# EAGLE library part STC3115AIQT (library STC3115AIQT)
Battery Management ANALOG Source: Datasheet <https://componentsearchengine.com/Datasheets/1/STC3115AIQT.pdf>
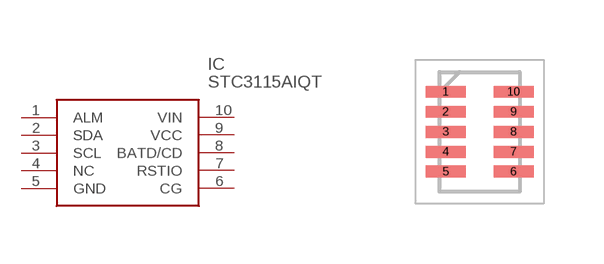
[diagram p0: symbol with the pads of SON50P200X300X60-10N; footprint SON50P200X300X60-10N]

Designator prefix IC

## STC3115AIQT (Description: Battery Management ANALOG; Height: 0.6mm; Manufacturer_Name: STMicroelectronics; Manufacturer_Part_Number: STC3115AIQT; Mouser_Part_Number: 511-STC3115AIQT; Mouser_Price-Stock: https://www.mouser.com/Search/Refine.aspx?Keyword=511-STC3115AIQT; RS_Part_Number: 1892089P; RS_Price-Stock: http://uk.rs-online.com/web/p/products/1892089P)  [SON50P200X300X60-10N]
1  ALM
2  SDA
3  SCL  in
4  NC  nc
5  GND  pwr
6  CG  in
7  RSTIO
8  BATD/CD
9  VCC  pwr
10  VIN  in

## Footprint SON50P200X300X60-10N (pad centres in mm)
STC3115AIQT
smd 1 x 0.3: 1 -0.85,1; 2 -0.85,0.5; 3 -0.85,0; 4 -0.85,-0.5; 5 -0.85,-1; 6 0.85,-1; 7 0.85,-0.5; 8 0.85,0; 9 0.85,0.5; 10 0.85,1